# Altium footprint library Ahrist_Library.PcbLib: 172 footprints (part 1 of 11)
Each footprint in its own frame and in the unit in brackets; x right, y up, seen from the top. Pads: shape width x height; smd on the part's side, far side on the other; paste and mask are expansions set on the pad; w line width, h text height; cw(c..) or ccw(c..) is an arc to the next point about the centre after c.
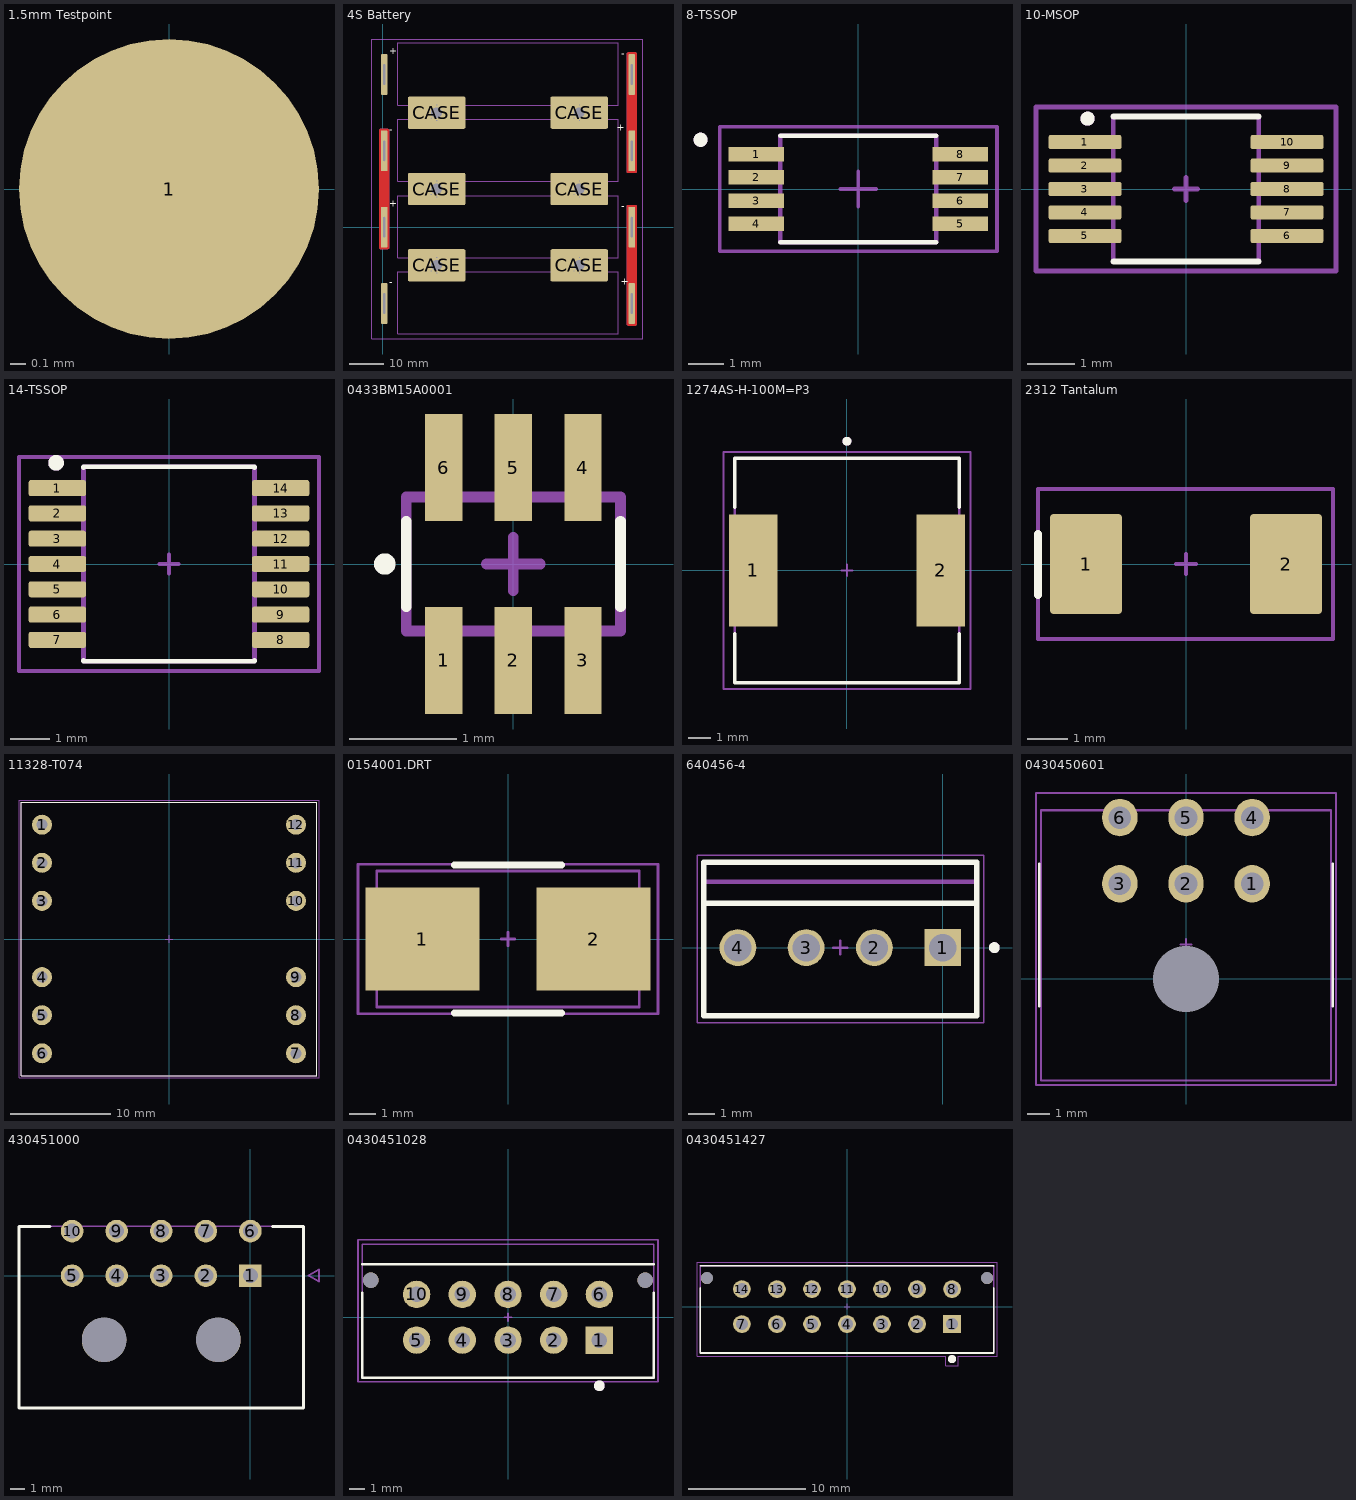
[diagram p0: the footprints below, top view; thin cyan lines are the x and y axes]

## 1.5mm Testpoint [mm] "1.5mm Testpoint top layer"
pads (1):
  round 2 smd: 1(0,0)

## 4S Battery [mm] "Custom 4S Battery Footprint"
pads (14):
  rrect30% 2x12 hole 0.5 slot 6 at 90 deg mask+0.075: 1(0.5,-22.5) 2(0.5,45) ""(0.5,0) ""(0.5,22.5) ""(73.5,-22.5) ""(73.5,0) ""(73.5,22.5) ""(73.5,45)
  rrect10% 17x9.5 / inner round 6 / far side round 6 hole 3.2 mask+0.075: CASE(15.95,-11.25) CASE(15.95,11.25) CASE(15.95,33.75) CASE(58,-11.25) CASE(58,11.25) CASE(58,33.75)
via 17.626,32.124 diameter 0.35 hole 0.3
via 14.374,32.124 diameter 0.35 hole 0.3
via 14.374,35.376 diameter 0.35 hole 0.3
via 17.626,35.376 diameter 0.35 hole 0.3
via 16,36.05 diameter 0.35 hole 0.3
via 13.7,33.75 diameter 0.35 hole 0.3
via 16,31.45 diameter 0.35 hole 0.3
via 18.3,33.75 diameter 0.35 hole 0.3
via 59.676,32.124 diameter 0.35 hole 0.3
via 56.424,32.124 diameter 0.35 hole 0.3
via 56.424,35.376 diameter 0.35 hole 0.3
via 59.676,35.376 diameter 0.35 hole 0.3
via 58.05,36.05 diameter 0.35 hole 0.3
via 55.75,33.75 diameter 0.35 hole 0.3
via 58.05,31.45 diameter 0.35 hole 0.3
via 60.35,33.75 diameter 0.35 hole 0.3
via 59.676,9.624 diameter 0.35 hole 0.3
via 56.424,9.624 diameter 0.35 hole 0.3
via 56.424,12.876 diameter 0.35 hole 0.3
via 59.676,12.876 diameter 0.35 hole 0.3
via 58.05,13.55 diameter 0.35 hole 0.3
via 55.75,11.25 diameter 0.35 hole 0.3
via 58.05,8.95 diameter 0.35 hole 0.3
via 60.35,11.25 diameter 0.35 hole 0.3
via 59.676,-12.876 diameter 0.35 hole 0.3
via 56.424,-12.876 diameter 0.35 hole 0.3
via 56.424,-9.624 diameter 0.35 hole 0.3
via 59.676,-9.624 diameter 0.35 hole 0.3
via 58.05,-8.95 diameter 0.35 hole 0.3
via 55.75,-11.25 diameter 0.35 hole 0.3
via 58.05,-13.55 diameter 0.35 hole 0.3
via 60.35,-11.25 diameter 0.35 hole 0.3
via 17.626,-12.876 diameter 0.35 hole 0.3
via 14.374,-12.876 diameter 0.35 hole 0.3
via 14.374,-9.624 diameter 0.35 hole 0.3
via 17.626,-9.624 diameter 0.35 hole 0.3
via 16,-8.95 diameter 0.35 hole 0.3
via 13.7,-11.25 diameter 0.35 hole 0.3
via 16,-13.55 diameter 0.35 hole 0.3
via 18.3,-11.25 diameter 0.35 hole 0.3
via 17.626,9.624 diameter 0.35 hole 0.3
via 14.374,9.624 diameter 0.35 hole 0.3
via 14.374,12.876 diameter 0.35 hole 0.3
via 17.626,12.876 diameter 0.35 hole 0.3
via 16,13.55 diameter 0.35 hole 0.3
via 13.7,11.25 diameter 0.35 hole 0.3
via 16,8.95 diameter 0.35 hole 0.3
via 18.3,11.25 diameter 0.35 hole 0.3
Top Layer:
  region: 72,16.5 72,51 72,51.099 72.076,51.283 72.217,51.424 72.401,51.5 72.5,51.5 74.5,51.5 74.599,51.5 74.783,51.424 74.924,51.283 75,51.099 75,51 75,16.5 75,16.401 74.924,16.217 74.783,16.076 74.599,16 74.5,16 72.5,16 72.401,16 72.217,16.076 72.076,16.217 72,16.401
  region: 72,-28.5 72,6 72,6.099 72.076,6.283 72.217,6.424 72.401,6.5 72.5,6.5 74.5,6.5 74.599,6.5 74.783,6.424 74.924,6.283 75,6.099 75,6 75,-28.5 75,-28.599 74.924,-28.783 74.783,-28.924 74.599,-29 74.5,-29 72.5,-29 72.401,-29 72.217,-28.924 72.076,-28.783 72,-28.599
  region: -1,-6 -1,28.5 -1,28.599 -0.924,28.783 -0.783,28.924 -0.599,29 -0.5,29 1.5,29 1.599,29 1.783,28.924 1.924,28.783 2,28.599 2,28.5 2,-6 2,-6.099 1.924,-6.283 1.783,-6.424 1.599,-6.5 1.5,-6.5 -0.5,-6.5 -0.599,-6.5 -0.783,-6.424 -0.924,-6.283 -1,-6.099
Bottom Layer:
  region: 72,16.5 72,51 72,51.099 72.076,51.283 72.217,51.424 72.401,51.5 72.5,51.5 74.5,51.5 74.599,51.5 74.783,51.424 74.924,51.283 75,51.099 75,51 75,16.5 75,16.401 74.924,16.217 74.783,16.076 74.599,16 74.5,16 72.5,16 72.401,16 72.217,16.076 72.076,16.217 72,16.401
  region: 72,-28.5 72,6 72,6.099 72.076,6.283 72.217,6.424 72.401,6.5 72.5,6.5 74.5,6.5 74.599,6.5 74.783,6.424 74.924,6.283 75,6.099 75,6 75,-28.5 75,-28.599 74.924,-28.783 74.783,-28.924 74.599,-29 74.5,-29 72.5,-29 72.401,-29 72.217,-28.924 72.076,-28.783 72,-28.599
  region: -1,-6 -1,28.5 -1,28.599 -0.924,28.783 -0.783,28.924 -0.599,29 -0.5,29 1.5,29 1.599,29 1.783,28.924 1.924,28.783 2,28.599 2,28.5 2,-6 2,-6.099 1.924,-6.283 1.783,-6.424 1.599,-6.5 1.5,-6.5 -0.5,-6.5 -0.599,-6.5 -0.783,-6.424 -0.924,-6.283 -1,-6.099
Top Overlay:
  text "+" at 2.05,50.967 h2
  text "+" at 70.3,-17.033 h2
  text "-" at 2.05,27.8 h2
  text "-" at 2.05,-17.2 h2
  text "+" at 2.05,5.967 h2
  text "-" at 71.45,50.3 h2
  text "+" at 71.45,28.467 h2
  text "-" at 71.45,5.3 h2
Mechanical 1:
  lines w0.2: 4.5,-31.5 4.5,-13.2 69.5,-13.2 69.5,-31.5 4.5,-31.5 ; 4.5,-9 4.5,9.3 69.5,9.3 69.5,-9 4.5,-9 ; 4.5,13.5 4.5,31.8 69.5,31.8 69.5,13.5 4.5,13.5 ; 4.5,36 4.5,54.3 69.5,54.3 69.5,36 4.5,36
  text "18650" at 24.1,43.903 h5
  text "18650" at 24.1,21.403 h5
  text "18650" at 24.1,-23.597 h5
  text "18650" at 24.1,-1.097 h5
Top Courtyard:
  lines w0.1: -3.2,-32.975 -3.2,55.475 76.7,55.475 76.7,-26.2 76.7,-32.975 61.875,-32.975 -3.2,-32.975
3D body "5209--3DModel-STEP-630548.STEP": height 14, standoff -7, extent 0.345,-27.508 8.73,-17.5
3D body "5209--3DModel-STEP-630548.STEP": height 14, standoff -7, extent 65.27,40 73.655,50.008
3D body "5209--3DModel-STEP-630548.STEP": height 14, standoff -7, extent 0.345,39.992 8.73,50
3D body "5209--3DModel-STEP-630548.STEP": height 14, standoff -7, extent 65.27,17.5 73.655,27.508
3D body "5209--3DModel-STEP-630548.STEP": height 14, standoff -7, extent 0.345,17.492 8.73,27.5
3D body "5209--3DModel-STEP-630548.STEP": height 14, standoff -7, extent 65.27,-27.5 73.655,-17.492
3D body "5209--3DModel-STEP-630548.STEP": height 14, standoff -7, extent 65.27,-5 73.655,5.008
3D body "5209--3DModel-STEP-630548.STEP": height 14, standoff -7, extent 0.345,-5.008 8.73,5
3D body "Unidade Bateria.SLDPRT": height 20.47, standoff 2.3, extent 4.5,35.9 69.5,54.1
3D body "Unidade Bateria.SLDPRT": height 20.47, standoff 2.3, extent 4.5,13.575 69.5,31.775
3D body "Unidade Bateria.SLDPRT": height 20.47, standoff 2.3, extent 4.5,-8.925 69.5,9.275
3D body "Unidade Bateria.SLDPRT": height 20.47, standoff 2.3, extent 4.5,-31.425 69.5,-13.225
3D body "Top_Bracket.STEP": height 22.28, standoff 0, extent 8.45,-32.511 23.45,55.011
3D body "Top_Bracket.STEP": height 22.28, standoff 0, extent 50.5,-32.511 65.5,55.011

## 8-TSSOP [mm] "Generic 8-TSSOP"
pads (8):
  rect 1.57x0.41 smd mask+0.075: 1(-2.87,0.975) 2(-2.87,0.325) 3(-2.87,-0.325) 4(-2.87,-0.975) 5(2.87,-0.975) 6(2.87,-0.325) 7(2.87,0.325) 8(2.87,0.975)
Top Overlay:
  circle w0.2: c-4.44,1.385 r0.1
  lines w0.127: -2.2,-1.5 2.2,-1.5 ; -2.2,1.5 2.2,1.5
Top Assembly:
  circle w0.2: c-4.44,1.385 r0.1
  lines w0.127: -2.2,-1.5 -2.2,1.5 2.2,1.5 2.2,-1.5 -2.2,-1.5
Top Component Outline:
  lines w0.1: -3.905,-1.75 -3.905,1.75 3.905,1.75 3.905,-1.75 -3.905,-1.75
Top Component Center:
  lines w0.1: 0,-0.5 0,0 ; 0,0 0,0.5 0,0 ; 0,0 0.5,0 -0.5,0 0,0
3D body "step_temp.STEP": height 1.2, standoff 0, extent -3.2,-1.5 3.2,1.5

## 10-MSOP [mm] "Analog Devices 10-MSOP"
pads (10):
  rrect25% 1.55x0.3 smd mask+0.05: 1(-2.155,1) 2(-2.155,0.5) 3(-2.155,0) 4(-2.155,-0.5) 5(-2.155,-1) 6(2.155,-1) 7(2.155,-0.5) 8(2.155,0) 9(2.155,0.5) 10(2.155,1)
Top Overlay:
  circle w0.2: c-2.1,1.5 r0.05
  lines w0.127: -1.55,-1.55 1.55,-1.55 ; -1.55,1.55 1.55,1.55
Top Courtyard:
  lines w0.1: -3.2,-1.75 3.2,-1.75 3.2,1.75 -3.2,1.75 -3.2,-1.75
Top Assembly:
  circle w0.2: c-2.1,1.5 r0.05
  lines w0.1: -1.55,-1.55 1.55,-1.55 1.55,1.55 -1.55,1.55 -1.55,-1.55
Top Designator:
  text ".Designator" at -0.6,-0.212 h1
Top Component Outline:
  lines w0.1: -1.55,-1.55 1.55,-1.55 1.55,1.55 -1.55,1.55 -1.55,-1.55
Top Component Center:
  lines w0.1: 0,-0.25 0,0 ; 0,0 0,0.25 0,0 ; 0,0 0.25,0 -0.25,0 0,0
3D body "step_temp.STEP": height 1.1, standoff 0, extent -2.45,-1.5 2.45,1.5

## 14-TSSOP [mm] "Analog Devices 14-TSSOP"
pads (14):
  rrect25% 1.47x0.41 smd mask+0.05: 1(-2.87,1.95) 2(-2.87,1.3) 3(-2.87,0.65) 4(-2.87,0) 5(-2.87,-0.65) 6(-2.87,-1.3) 7(-2.87,-1.95) 8(2.87,-1.95) 9(2.87,-1.3) 10(2.87,-0.65) 11(2.87,0) 12(2.87,0.65) 13(2.87,1.3) 14(2.87,1.95)
Top Overlay:
  circle w0.2: c-2.9,2.6 r0.1
  lines w0.127: -2.2,-2.475 -2.2,-2.5 2.2,-2.5 2.2,-2.475 ; -2.2,2.475 -2.2,2.5 2.2,2.5 2.2,2.475
Top Courtyard:
  lines w0.1: -3.855,-2.75 -3.855,2.75 3.855,2.75 3.855,-2.75 -3.855,-2.75
Top Assembly:
  circle w0.2: c-2.9,2.6 r0.1
  lines w0.127: -2.2,-2.5 -2.2,2.5 2.2,2.5 2.2,-2.5 -2.2,-2.5
Top Designator:
  text ".Designator" at -0.5,-0.062 h1
Top Component Outline:
  lines w0.127: -2.2,-2.5 -2.2,2.5 2.2,2.5 2.2,-2.5 -2.2,-2.5
Top Component Center:
  lines w0.1: 0,-0.25 0,0 ; 0,0 -0.25,0 0.25,0 0,0 ; 0,0 0,0.25 0,0
3D body "step_temp.STEP": height 1.2, standoff 0, extent -3.2,-2.5 3.2,2.5

## 0433BM15A0001 [mm] "RF FILTER BAND PASS 433MHZ 0805"
pads (6):
  rect 0.35x1 smd mask+0.075: 1(-0.65,-0.9) 2(0,-0.9) 3(0.65,-0.9) 4(0.65,0.9) 5(0,0.9) 6(-0.65,0.9)
Top Overlay:
  circle w0.1: c-1.2,0 r0.05
  lines w0.1: -1,-0.4 -1,0.4 ; 1,-0.4 1,0.4
Top Designator:
  text ".Designator" at -0.59,-0.14 h0.6
Top Component Outline:
  lines w0.1: -1,-0.1 -1,0.625 1,0.625 1,-0.625 -1,-0.625 -1,0.2
Top Component Center:
  lines w0.1: 0,-0.25 0,0 ; 0,0 -0.25,0 0.25,0 0,0 ; 0,0 0,0.25 0,0
3D body "0433BM15A0001E.STEP": height 0.9, standoff 0, extent -1,-0.625 1,0.625

## 1274AS-H-100M=P3 [mm] "Murata 3939 Inductor"
pads (2):
  rect 2.15x5 smd mask+0.05: 1(-4.175,0) 2(4.175,0)
Top Overlay:
  circle w0.2: c0,5.75 r0.1
  lines w0.15: -5,-2.82 -5,-5 5,-5 5,-2.82 ; -5,2.82 -5,5 5,5 5,2.82
Top Courtyard:
  lines w0.1: -5.5,-5.275 -5.5,5.275 5.5,5.275 5.5,-5.275 -5.5,-5.275
Top Assembly:
  circle w0.2: c0,5.75 r0.1
  lines w0.1: -5,-5 -5,5 5,5 5,-5 -5,-5
Top Designator:
  text ".Designator" at -0.5,-0.062 h1
Top Component Outline:
  lines w0.1: -5,-5 -5,5 5,5 5,-5 -5,-5
Top Component Center:
  lines w0.1: 0,-0.25 0,0 ; 0,0 0,0.25 0,0 ; 0,0 0.25,0 -0.25,0 0,0
3D body "step_temp.STEP": height 5, standoff 0, extent -5,-5 5,5

## 2312 Tantalum [mm] "2312 Tantalum"
pads (2):
  rrect10% 1.8x2.5 smd mask+0.075: 1(-2.5,0) 2(2.5,0)
Top Overlay:
  lines w0.2: -3.7,-0.775 -3.7,0.75
Top Courtyard:
  lines w0.1: -2.775,-1.875 -3.7,-1.875 -3.7,1.875 3.675,1.875 3.675,-1.875 -2.75,-1.875
Top Designator:
  text ".Designator" at -0.74,-0.187 h1
Top Component Center:
  lines w0.1: 0,-0.25 0,0 ; 0,0 0,0.25 0,0 ; 0,0 0.25,0 -0.25,0 0,0
3D body "TPSC107K010T0100--KYOCERA_AVX-TAN.stp": height 2.72, standoff 0.02, extent -3.05,-1.675 3.05,1.675

## 11328-T074 [mm] "Power Transformers Flyback Transformer for LT8316"
pads (12):
  round 2 hole 1.1 mask+0.1: 1(-12.7,11.43) 2(-12.7,7.62) 3(-12.7,3.81) 4(-12.7,-3.81) 5(-12.7,-7.62) 6(-12.7,-11.43) 7(12.7,-11.43) 8(12.7,-7.62) 9(12.7,-3.81) 10(12.7,3.81) 11(12.7,7.62) 12(12.7,11.43)
Top Overlay:
  lines w0.1: -14.75,-13.65 -14.75,13.65 14.75,13.65 14.75,-13.65 -14.75,-13.65
Top Courtyard:
  lines w0.1: -15,-13.9 -15,-13.225 -15,13.9 15,13.9 15,-13.9 -15,-13.9
Top Assembly:
  lines w0.1: -14.75,-13.65 -14.75,13.65 14.75,13.65 14.75,-13.65 -14.75,-13.65
  text ".Designator" at -1.73,0.237 h0.5
Top Component Center:
  lines w0.1: -0.4,0 0,0 ; 0,0 0,-0.4 0,0 ; 0,0 0.4,0 0,0 ; 0,0 0,0.4 0,0
3D body "PQ-26-20_6+6_tx.step": height 20.44, standoff -6.2, extent -14.75,-13.65 14.75,13.65

## 0154001.DRT [mm] "Fuseblock with fuse SMA"
pads (2):
  rect 4.24x3.81 smd mask+0.075: 1(-3.185,0) 2(3.185,0)
Top Overlay:
  lines w0.25: -2,-2.75 0,-2.75 2,-2.75 ; -2,2.75 0,2.75 2,2.75
Top Courtyard:
  lines w0.1: 5.575,-2.4 5.575,2.775 4,2.775 -5.575,2.775 -5.575,2.4 -5.575,-2.775 -4,-2.775 5.575,-2.775 5.575,-2.375
Top Assembly:
  lines w0.1: -4.875,-2.525 -4.875,2.525 4.875,2.525 4.875,-2.525 -4.871,-2.525 -4.871,-2.5
  text ".Designator" at -1.09,-0.14 h0.6
Top Component Outline:
  lines w0.1: -4.875,-2.525 -4.875,2.525 4.875,2.525 4.875,-2.525 -4.871,-2.525 -4.871,-2.5
Top Component Center:
  lines w0.1: 0,-0.25 0,0 ; 0,0 -0.25,0 0.25,0 0,0 ; 0,0 0,0.25 0,0
3D body "0154001.DRT.STEP": height 3.81, standoff 0, extent -4.865,-2.515 4.865,2.515

## 640456-4 [mm] "CONN HEADER VERT 4POS 2.54MM"
pads (4):
  rect 1.37x1.37 / inner round 1.37 / far side rect 1.37x1.37 hole 1.02: 1(0,0)
  round 1.37 hole 1.02: 2(-2.54,0) 3(-5.08,0) 4(-7.62,0)
Top Overlay:
  circle w0.2: c1.92,0 r0.1
  lines w0.2: -8.875,1.65 1.25,1.65 ; -8.89,-2.54 1.27,-2.54 1.27,3.18 -8.89,3.18 -8.89,-2.54
Top Courtyard:
  lines w0.05: -9.14,-2.79 -9.14,3.43 1.52,3.43 1.52,-2.79 -9.14,-2.79
Top Assembly:
  circle w0.2: c1.92,0 r0.1
  lines w0.127: -8.89,-2.54 -8.89,3.18 ; -8.89,-2.54 -8.89,3.18 ; -8.89,-2.54 1.27,-2.54 ; -8.89,3.18 1.27,3.18 ; -8.89,3.18 1.27,3.18 ; 1.27,-2.54 1.27,3.18 ; 1.27,-2.54 1.27,3.18
  lines w0.15: -8.875,2.45 1.25,2.45
  text ".Designator" at -5.34,-0.14 h0.6
Top Component Outline:
  lines w0.127: -8.89,-2.54 -8.89,3.18 ; -8.89,-2.54 -8.89,3.18 ; -8.89,-2.54 1.27,-2.54 ; -8.89,3.18 1.27,3.18 ; -8.89,3.18 1.27,3.18 ; 1.27,-2.54 1.27,3.18 ; 1.27,-2.54 1.27,3.18
Top Component Center:
  lines w0.1: -4.06,0 -3.81,0 ; -3.81,-0.25 -3.81,0 ; -3.81,0.25 -3.81,0 ; -3.56,0 -3.81,0
3D body "step_temp.STEP": height 10.03, standoff -3.94, extent -8.89,-2.54 1.27,3.175

## 0430450601 [mm] "Molex Microfit 6positions Angled"
pads (7):
  oval 1.6x1.7 hole 1.02 mask+0.05: 1(3,4.32) 2(0,4.32) 3(-3,4.32) 4(3,7.32) 5(0,7.32) 6(-3,7.32)
  round 0 hole 3 mask+0.075: 20(0,0)
Top Overlay:
  lines w0.1: -6.65,-1.25 -6.65,5.225 ; 6.65,-1.25 6.65,5.225
Top Courtyard:
  lines w0.1: -6.8,-4.8 -6.8,8.425 -2.975,8.425 6.8,8.425 6.8,-4.8 -6.8,-4.8
Top Assembly:
  lines w0.1: -6.579,-4.597 2.489,-4.597 6.579,-4.597 6.579,7.645 -6.579,7.645 -6.579,-4.597
Top Designator:
  text ".Designator" at -0.925,2.138 h1
Top Component Outline:
  lines w0.1: -6.579,-4.597 2.489,-4.597 6.579,-4.597 6.579,7.645 -6.579,7.645 -6.579,-4.597
Top Component Center:
  lines w0.1: 0,1.313 0,1.563 ; 0,1.563 -0.25,1.563 0.25,1.563 0,1.563 ; 0,1.563 0,1.813 0,1.563
3D body "0430450601.stp": height 8.83, standoff -3.12, extent -6.575,-4.595 6.575,7.645

## 430451000 [mm] "Molex 10Pos 2Row"
pads (12):
  rect 1.52x1.52 / inner round 1.52 / far side rect 1.52x1.52 hole 1.02 mask+0.076: 1(0,0)
  round 1.52 hole 1.02 mask+0.076: 2(-3,0) 3(-6,0) 4(-9,0) 5(-12,0) 6(0,3) 7(-3,3) 8(-6,3) 9(-9,3) 10(-12,3)
  round 3 hole 3 unplated mask+0.075: ""(-9.85,-4.32) ""(-2.15,-4.32)
Top Overlay:
  lines w0.2: -13.5,3.32 -15.575,3.32 -15.575,-8.92 3.575,-8.92 3.575,3.32 1.5,3.32
Top Assembly:
  lines w0.1: 3.92,0.01 4.62,0.41 ; 3.92,0.01 4.62,-0.39 ; 3.92,0.01 4.62,0.41 ; 3.92,0.01 4.62,-0.39 ; 4.62,-0.39 4.62,0.41 ; 4.62,-0.39 4.62,0.41 ; -15.575,-8.92 3.575,-8.92 3.575,3.32 -15.575,3.32 -15.575,-8.92
Top Component Outline:
  lines w0.1: -15.575,-8.92 3.575,-8.92 3.575,3.32 -15.575,3.32 -15.575,-8.92
Mechanical 13:
  lines w0.127: 3.92,0.01 4.62,0.41 4.62,-0.39 3.92,0.01
3D body "0430451000.stp": height 8.83, standoff -3.12, extent -15.575,-8.955 3.575,3.285

## 0430451028 [mm] "Molex Microfit 10 Position"
pads (12):
  rect 1.8x1.8 hole 1.02 mask+0.05: 1(6,-1.5)
  round 1.8 hole 1.02 mask+0.05: 2(3,-1.5) 3(0,-1.5) 4(-3,-1.5) 5(-6,-1.5) 6(6,1.5) 7(3,1.5) 8(0,1.5) 9(-3,1.5) 10(-6,1.5)
  round 1.02 hole 1.02 unplated mask+0.076: ""(-9,2.44) ""(9,2.44)
Top Overlay:
  circle w0.4: c6,-4.5 r0.15
  lines w0.15: -9.575,1.61 -9.575,-3.97 9.575,-3.97 9.575,1.61 ; -9.575,3.475 9.575,3.475
Top Courtyard:
  lines w0.1: 9.85,-0.7 9.85,-4.25 7.95,-4.25 -9.85,-4.25 -9.85,-0.7 -9.85,5.075 9.85,5.075 9.85,-0.675
Top Assembly:
  circle w0.4: c6,-4.5 r0.15
  lines w0.1: -9.575,-3.97 -9.575,4.8 9.575,4.8 9.575,-3.97 -9.575,-3.97
Top Designator:
  text ".Designator" at -1.5,0.125 h2
Top Component Outline:
  lines w0.1: -9.575,-3.97 -9.575,4.8 9.575,4.8 9.575,-3.97 -9.575,-3.97
Top Component Center:
  lines w0.1: 0,-0.25 0,0 ; 0,0 -0.25,0 0.25,0 0,0 ; 0,0 0,0.25 0,0
3D body "0430451028.stp": height 9.95, standoff -3.14, extent -9.575,-3.94 9.575,4.83

## 0430451427 [mm] "Molex Microfit 14Pos"
pads (16):
  rect 1.52x1.52 / inner round 1.52 / far side rect 1.52x1.52 hole 1.02 mask+0.05: 1(9,-1.5)
  round 1.52 hole 1.02 mask+0.05: 2(6,-1.5) 3(3,-1.5) 4(0,-1.5) 5(-3,-1.5) 6(-6,-1.5) 7(-9,-1.5) 8(9,1.5) 9(6,1.5) 10(3,1.5) 11(0,1.5) 12(-3,1.5) 13(-6,1.5) 14(-9,1.5)
  round 1.02 hole 1.02 unplated mask+0.076: ""(-12,2.44) ""(12,2.44)
Top Overlay:
  circle w0.4: c9,-4.5 r0.15
  lines w0.15: -12.575,1.61 -12.575,-3.97 12.575,-3.97 12.575,1.61 ; -12.575,3.5 12.575,3.475
Top Courtyard:
  lines w0.1: -12.85,3.25 -12.85,-4.25 -11.425,-4.25 8.45,-4.25 8.45,-4.375 ; -12.85,3.275 -12.85,3.775 -12.175,3.775 12.85,3.775 12.85,-4.25 9.55,-4.25 9.55,-5.05 8.45,-5.05 8.45,-4.275
Top Assembly:
  circle w0.4: c9,-4.5 r0.15
  lines w0.127: -12.575,-3.97 -12.575,3.5 -4.988,3.5 4.987,3.5 12.575,3.5 12.575,-3.97 -12.575,-3.97
Top Designator:
  text ".Designator" at -1.9,-0.848 h4
Top Component Outline:
  lines w0.127: -12.575,-3.97 -12.575,3.5 -4.988,3.5 4.987,3.5 12.575,3.5 12.575,-3.97 -12.575,-3.97
Top Component Center:
  lines w0.1: 0,-0.25 0,0 ; 0,0 0,0.25 0,0 ; 0,0 0.25,0 -0.25,0 0,0
3D body "430451427--3DModel-STEP-56544.STEP": height 9.91, standoff -3.18, extent -12.575,-3.97 12.575,4.8

## 0430452427 [mm] "Molex Microfit 24 pos"